# EAGLE library part MEGA2560-CORE-V1 (library Mega2560-core)
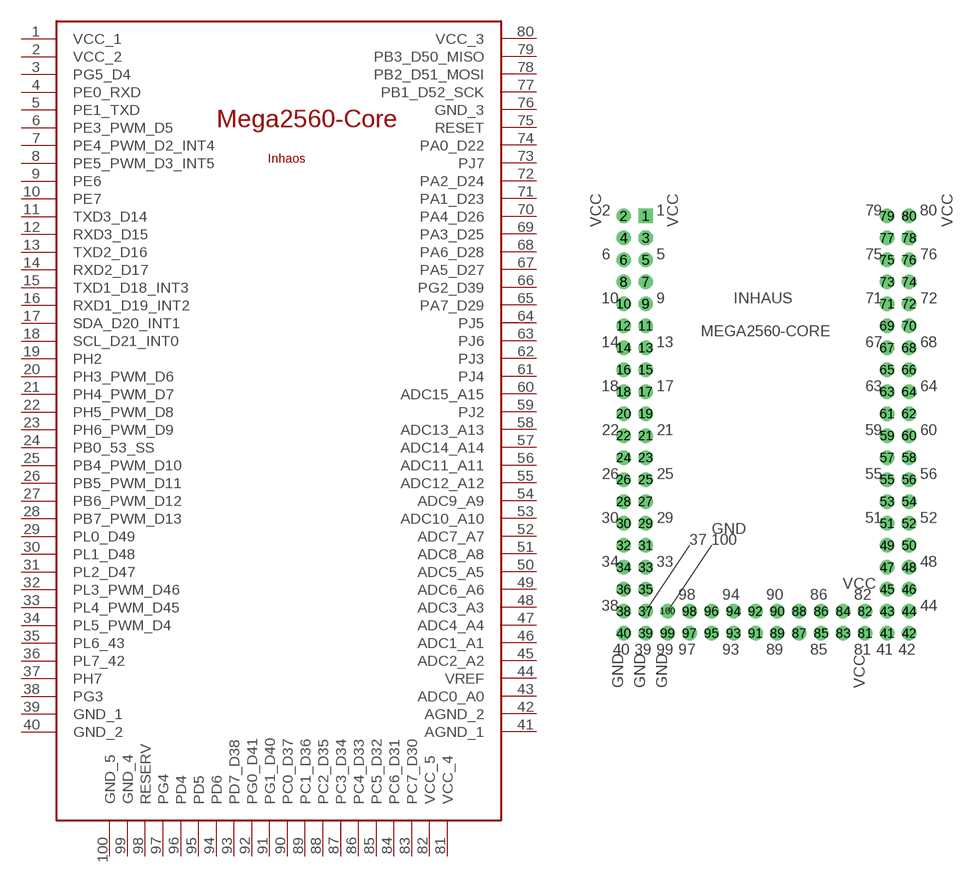
[diagram p0: symbol with the pads of MEGA2560-CORE-V1; footprint MEGA2560-CORE-V1]

Designator prefix -

## MEGA2560-CORE-V1  [MEGA2560-CORE-V1]
1  VCC_1
2  VCC_2
3  PG5_D4
4  PE0_RXD
5  PE1_TXD
6  PE3_PWM_D5
7  PE4_PWM_D2_INT4
8  PE5_PWM_D3_INT5
9  PE6
10  PE7
11  TXD3_D14
12  RXD3_D15
13  TXD2_D16
14  RXD2_D17
15  TXD1_D18_INT3
16  RXD1_D19_INT2
17  SDA_D20_INT1
18  SCL_D21_INT0
19  PH2
20  PH3_PWM_D6
21  PH4_PWM_D7
22  PH5_PWM_D8
23  PH6_PWM_D9
24  PB0_53_SS
25  PB4_PWM_D10
26  PB5_PWM_D11
27  PB6_PWM_D12
28  PB7_PWM_D13
29  PL0_D49
30  PL1_D48
31  PL2_D47
32  PL3_PWM_D46
33  PL4_PWM_D45
34  PL5_PWM_D4
35  PL6_43
36  PL7_42
37  PH7
38  PG3
39  GND_1
40  GND_2
41  AGND_1
42  AGND_2
43  ADC0_A0
44  VREF
45  ADC2_A2
46  ADC1_A1
47  ADC4_A4
48  ADC3_A3
49  ADC6_A6
50  ADC5_A5
51  ADC8_A8
52  ADC7_A7
53  ADC10_A10
54  ADC9_A9
55  ADC12_A12
56  ADC11_A11
57  ADC14_A14
58  ADC13_A13
59  PJ2
60  ADC15_A15
61  PJ4
62  PJ3
63  PJ6
64  PJ5
65  PA7_D29
66  PG2_D39
67  PA5_D27
68  PA6_D28
69  PA3_D25
70  PA4_D26
71  PA1_D23
72  PA2_D24
73  PJ7
74  PA0_D22
75  RESET
76  GND_3
77  PB1_D52_SCK
78  PB2_D51_MOSI
79  PB3_D50_MISO
80  VCC_3
81  VCC_4
82  VCC_5
83  PC7_D30
84  PC6_D31
85  PC5_D32
86  PC4_D33
87  PC3_D34
88  PC2_D35
89  PC1_D36
90  PC0_D37
91  PG1_D40
92  PG0_D41
93  PD7_D38
94  PD6
95  PD5
96  PD4
97  PG4
98  RESERV
99  GND_4
100  GND_5

## Footprint MEGA2560-CORE-V1 (pad centres in mm)
drill 1 pad 1.676 square: 1 -13.97,24.13
drill 1 pad 1.676: 2 -16.51,24.13; 4 -16.51,21.59; 5 -13.97,19.05; 6 -16.51,19.05; 7 -13.97,16.51; 8 -16.51,16.51; 9 -13.97,13.97; 10 -16.51,13.97; 11 -13.97,11.43; 12 -16.51,11.43; 13 -13.97,8.89; 14 -16.51,8.89; 15 -13.97,6.35; 16 -16.51,6.35; 17 -13.97,3.81; 18 -16.51,3.81; 19 -13.97,1.27; 20 -16.51,1.27; 21 -13.97,-1.27; 22 -16.51,-1.27; 23 -13.97,-3.81; 24 -16.51,-3.81; 25 -13.97,-6.35; 26 -16.51,-6.35; 27 -13.97,-8.89; 28 -16.51,-8.89; 29 -13.97,-11.43; 30 -16.51,-11.43; 31 -13.97,-13.97; 32 -16.51,-13.97; 33 -13.97,-16.51; 34 -16.51,-16.51; 35 -13.97,-19.05; 36 -16.51,-19.05; 37 -13.97,-21.59; 38 -16.51,-21.59; 39 -13.97,-24.13; 40 -16.51,-24.13; 41 13.97,-24.13; 42 16.51,-24.13; 43 13.97,-21.59; 44 16.51,-21.59; 45 13.97,-19.05; 46 16.51,-19.05; 47 13.97,-16.51; 48 16.51,-16.51; 49 13.97,-13.97; 50 16.51,-13.97; 51 13.97,-11.43; 52 16.51,-11.43; 53 13.97,-8.89; 54 16.51,-8.89; 55 13.97,-6.35; 56 16.51,-6.35; 57 13.97,-3.81; 58 16.51,-3.81; 59 13.97,-1.27; 60 16.51,-1.27; 61 13.97,1.27; 62 16.51,1.27; 63 13.97,3.81; 64 16.51,3.81; 65 13.97,6.35; 66 16.51,6.35; 67 13.97,8.89; 68 16.51,8.89; 69 13.97,11.43; 70 16.51,11.43; 71 13.97,13.97; 72 16.51,13.97; 73 13.97,16.51; 74 16.51,16.51; 75 13.97,19.05; 76 16.51,19.05; 77 13.97,21.59; 79 13.97,24.13; 80 16.51,24.13; 81 11.43,-24.13; 82 11.43,-21.59; 83 8.89,-24.13; 84 8.89,-21.59; 85 6.35,-24.13; 86 6.35,-21.59; 87 3.81,-24.13; 88 3.81,-21.59; 89 1.27,-24.13; 90 1.27,-21.59; 91 -1.27,-24.13; 92 -1.27,-21.59; 93 -3.81,-24.13; 94 -3.81,-21.59; 95 -6.35,-24.13; 96 -6.35,-21.59; 97 -8.89,-24.13; 98 -8.89,-21.59; 99 -11.43,-24.13; 100 -11.43,-21.59
drill 1 pad 1.676 octagon: 3 -13.97,21.59; 78 16.51,21.59